# Altium integrated library Silicon Labs Energy Micro EFM32.IntLib: 240 symbols (part 13 of 34)
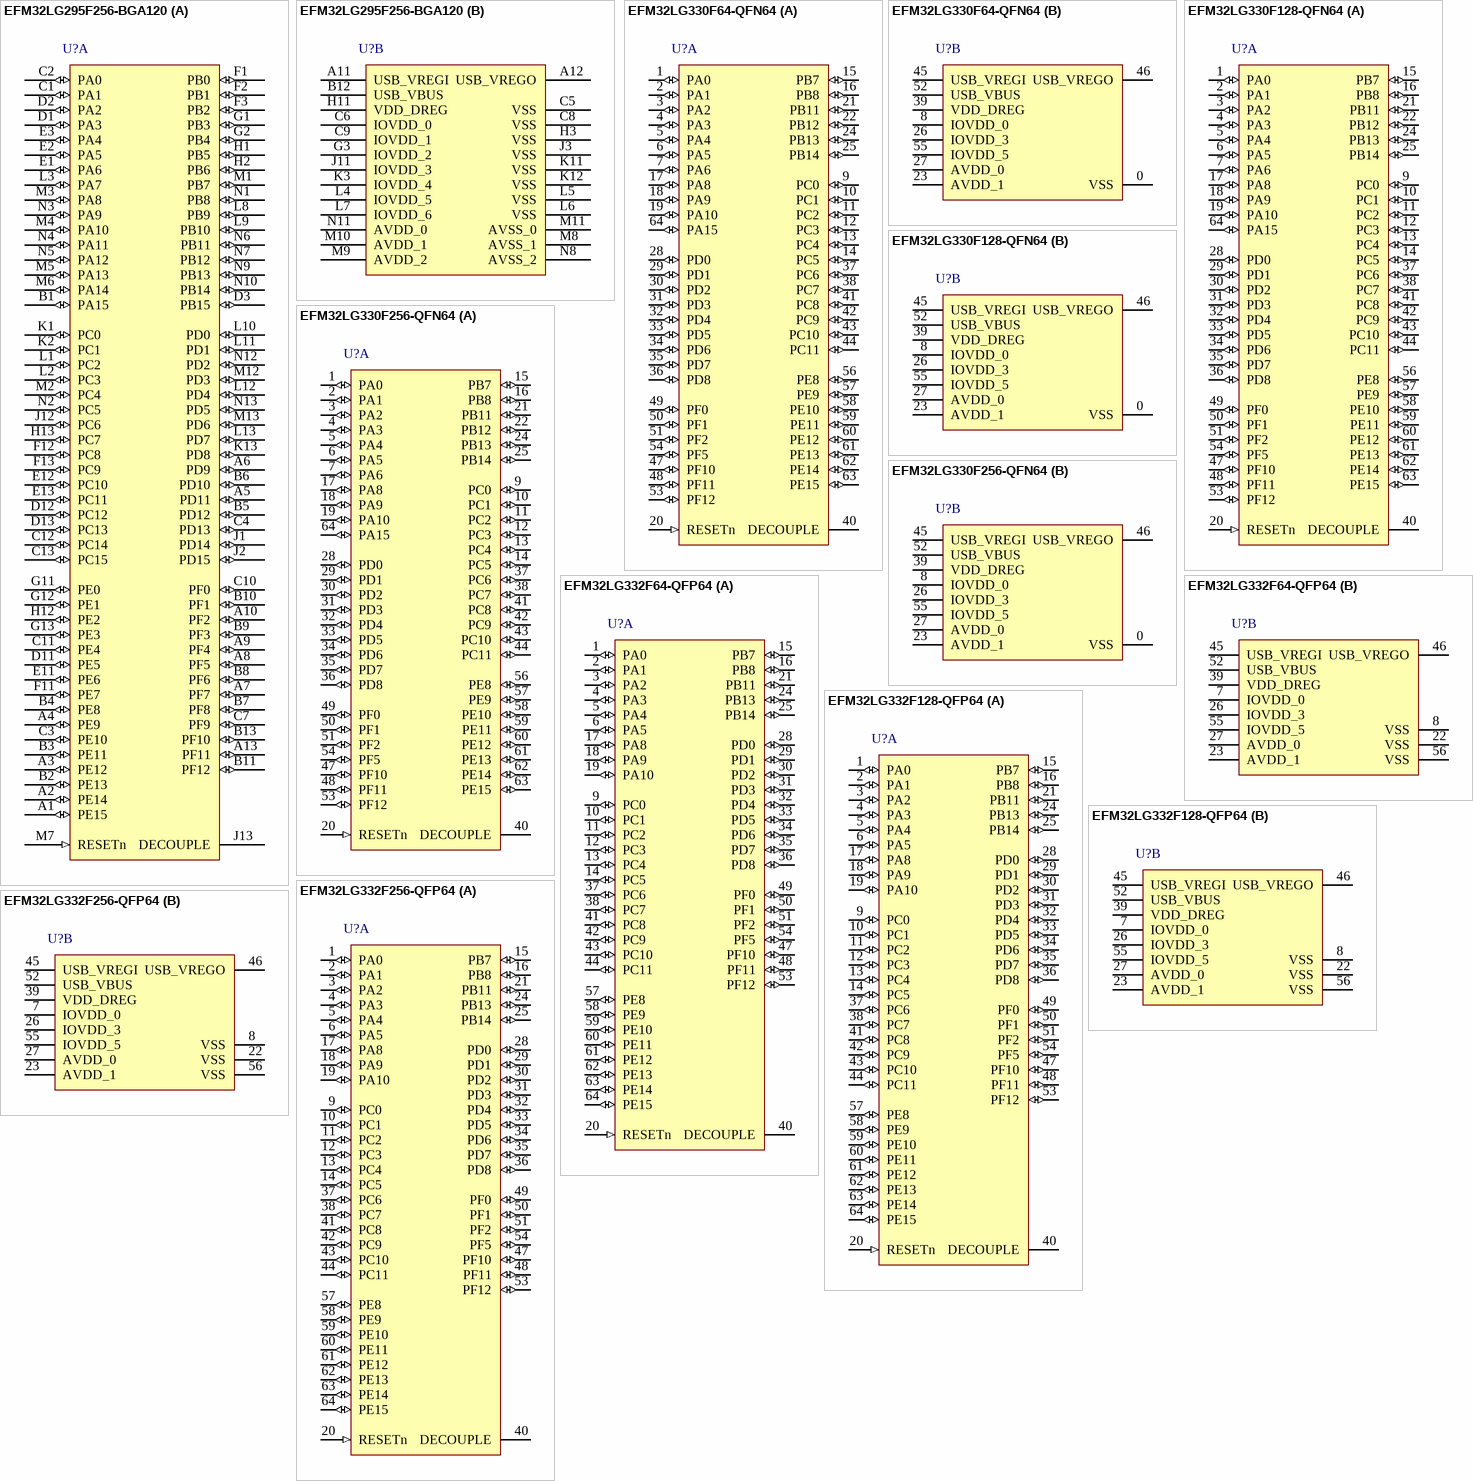
[diagram p50: symbols EFM32LG295F256-BGA120 to EFM32LG332F256-QFP64]

## EFM32LG330F256-QFN64
designator U?
EFM32 Leopard Gecko, M3 ARM Cortex CPU, 256 KB Flash, 32 KB RAM, 1.85 - 3.8 V Supply, 48 MHz Max Speed, -40 to 85 degC, 64-Pin QFN, RoHS Compliant; Generic Part Number: EFM32LG330; PartNumber: EFM32LG330F256-QFN64; Flash (KB): 256; GPIO: 53; LESENSE: Y; Max Speed (MHz): 48; OPAMPS: 3; RAM (KB): 32; DatasheetVersion: Rev 1.00; PackageVersion: Rev. 98SPP64048A_XO1_08MAR2011; PackageReference: QFN64; PackageDescription: 64-Pin Quad Flat No-Lead, Body 9 x 9 mm, Pitch 0.5 mm; Supplier 1: Digi-Key; Supplier Part Number 1: 914-1055-2-ND; Supplier 2: Digi-Key; Supplier Part Number 2: 914-1055-1-ND; Supplier 3: Digi-Key; Supplier Part Number 3: 914-1055-6-ND; Supplier 4: Mouser; Supplier Part Number 4: 904-EFM32LG330F256; ARM Cortex CPU: M3; Subcategory: EFM32 Leopard Gecko; Supply Voltage (V): 1.85 - 3.8; USB: Y; Mounting Technology: Surface Mount; ComponentLink1Description: Manufacturer URL; ComponentLink1URL: http://www.energymicro.com/; ComponentLink2Description: Datasheet; ComponentLink2URL: http://cdn.energymicro.com/dl/devices/pdf/d0038_efm32gg330_datasheet.pdf; ComponentLink3Description: Package Specification; ComponentLink3URL: http://cdn.energymicro.com/dl/devices/pdf/d0005_efm32g230_datasheet.pdf
footprint ENMR-QFN64_N (QFN, 64-Leads, Body 9x9mm, Pitch 0.5mm, IPC Medium Density)
footprint ENMR-QFN64_L (QFN, 64-Leads, Body 9x9mm, Pitch 0.5mm, IPC High Density)
footprint ENMR-QFN64_M (QFN, 64-Leads, Body 9x9mm, Pitch 0.5mm, IPC Low Density)
part A pins: 1 PA0 (io) "TIM0_CC0#0/1/4, LEU0_RX#4, I2C0_SDA#0, PRS_CH0#0, GPIO_EM4WU0", 2 PA1 (io) "TIM0_CC1#0/1, I2C0_SCL#0, CMU_CLK1#0, PRS_CH1#0", 3 PA2 (io) "TIM0_CC2#0/1, CMU_CLK0#0, ETM_TD0#3", 4 PA3 (io) "TIM0_CDTI0#0, LES_ALTEX2#0, ETM_TD1#3", 5 PA4 (io) "TIM0_CDTI1#0, LES_ALTEX3#0, ETM_TD2#3", 6 PA5 (io) "TIM0_CDTI2#0, LEU1_TX#1, LES_ALTEX4#0, ETM_TD3#3", 7 PA6 (io) "LEU1_RX#1, ETM_TCLK#3, GPIO_EM4WU1", 9 PC0 (io) "DAC0_OUT0ALT#0/OPAMP_OUT0ALT, ACMP0_CH0, TIM0_CC1#4, PCNT0_S0IN#2, US0_TX#5, US1_TX#0, I2C0_SDA#4, LES_CH0#0, PRS_CH2#0", 10 PC1 (io) "DAC0_OUT0ALT#1/OPAMP_OUT0ALT, ACMP0_CH1, TIM0_CC2#4, PCNT0_S1IN#2, US0_RX#5, US1_RX#0, I2C0_SCL#4, LES_CH1#0, PRS_CH3#0", 11 PC2 (io) "DAC0_OUT0ALT#2/OPAMP_OUT0ALT, ACMP0_CH2, TIM0_CDTI0#4, US2_TX#0, LES_CH2#0", 12 PC3 (io) "DAC0_OUT0ALT#3/OPAMP_OUT0ALT, ACMP0_CH3, TIM0_CDTI1#4, US2_RX#0, LES_CH3#0", 13 PC4 (io) "DAC0_P0#0/OPAMP_P0, ACMP0_CH4, TIM0_CDTI2#4, LETIM0_OUT0#3, PCNT1_S0IN#0, US2_CLK#0, I2C1_SDA#0, LES_CH4#0", 14 PC5 (io) "DAC0_N0#0/OPAMP_N0, ACMP0_CH5, LETIM0_OUT1#3, PCNT1_S1IN#0, US2_CS#0, I2C1_SCL#0, LES_CH5#0", 15 PB7 (io) "LFXTAL_P, TIM1_CC0#3, US0_TX#4, US1_CLK#0", 16 PB8 (io) "LFXTAL_N, TIM1_CC1#3, US0_RX#4, US1_CS#0", 17 PA8 (io) "TIM2_CC0#0", 18 PA9 (io) "TIM2_CC1#0", 19 PA10 (io) "TIM2_CC2#0", 20 RESETn (in) "Reset input. Active low, with internal pull-up.", 21 PB11 (io) "DAC0_OUT0#0/OPAMP_OUT0, TIM1_CC2#3, LETIM0_OUT0#1, I2C1_SDA#1", 22 PB12 (io) "DAC0_OUT1#0/OPAMP_OUT1, LETIM0_OUT1#1, I2C1_SCL#1", 24 PB13 (io) "HFXTAL_P, US0_CLK#4/5, LEU0_TX#1", 25 PB14 (io) "HFXTAL_N, US0_CS#4/5, LEU0_RX#1", 28 PD0 (io) "ADC0_CH0, DAC0_OUT0ALT#4/OPAMP_OUT0ALT, DAC0_OUT2#1/OPAMP_OUT2, PCNT2_S0IN#0, US1_TX#1", 29 PD1 (io) "ADC0_CH1, DAC0_OUT1ALT#4/OPAMP_OUT1ALT, TIM0_CC0#3, PCNT2_S1IN#0, US1_RX#1, DBG_SWO#2", 30 PD2 (io) "ADC0_CH2, TIM0_CC1#3, US1_CLK#1, USB_DMPU#0, DBG_SWO#3", 31 PD3 (io) "ADC0_CH3, DAC0_N2#0/OPAMP_N2, TIM0_CC2#3, US1_CS#1, ETM_TD1#0/2", 32 PD4 (io) "ADC0_CH4, DAC0_P2#0/OPAMP_P2, LEU0_TX#0, ETM_TD2#0/2", 33 PD5 (io) "ADC0_CH5, DAC0_OUT2#0/OPAMP_OUT2, LEU0_RX#0, ETM_TD3#0/2", 34 PD6 (io) "ADC0_CH6, DAC0_P1#0/OPAMP_P1, TIM1_CC0#4, LETIM0_OUT0#0, PCNT0_S0IN#3, US1_RX#2, I2C0_SDA#1, LES_ALTEX0#0, ACMP0_O#2, ETM_TD0#0", 35 PD7 (io) "ADC0_CH7, DAC0_N1#0/OPAMP_N1, TIM1_CC1#4, LETIM0_OUT1#0, PCNT0_S1IN#3, US1_TX#2, I2C0_SCL#1, CMU_CLK0#2, LES_ALTEX1#0, ACMP1_O#2, ETM_TCLK#0", 36 PD8 (io) "BU_VIN, CMU_CLK1#1", 37 PC6 (io) "ACMP0_CH6, LEU1_TX#0, I2C0_SDA#2, LES_CH6#0, ETM_TCLK#2", 38 PC7 (io) "ACMP0_CH7, LEU1_RX#0, I2C0_SCL#2, LES_CH7#0, ETM_TD0#2", 40 DECOUPLE "Decouple output for on-chip voltage regulator. An external capacitance of size CDECOUPLE is required at this pin.", 41 PC8 (io) "ACMP1_CH0, TIM2_CC0#2, US0_CS#2, LES_CH8#0", 42 PC9 (io) "ACMP1_CH1, TIM2_CC1#2, US0_CLK#2, LES_CH9#0, GPIO_EM4WU2", 43 PC10 (io) "ACMP1_CH2, TIM2_CC2#2, US0_RX#2, LES_CH10#0", 44 PC11 (io) "ACMP1_CH3, US0_TX#2, LES_CH11#0", 47 PF10 (io) "USB_DM#0", 48 PF11 (io) "USB_DP#0", 49 PF0 (io) "TIM0_CC0#5, LETIM0_OUT0#2, US1_CLK#2, LEU0_TX#3, I2C0_SDA#5, DBG_SWCLK#0/1/2/3", 50 PF1 (io) "TIM0_CC1#5, LETIM0_OUT1#2, US1_CS#2, LEU0_RX#3, I2C0_SCL#5, DBG_SWDIO#0/1/2/3, GPIO_EM4WU3", 51 PF2 (io) "TIM0_CC2#5, LEU0_TX#4, ACMP1_O#0, DBG_SWO#0, GPIO_EM4WU4", 53 PF12 (io) "USB_ID#0", 54 PF5 (io) "TIM0_CDTI2#2/5, USB_VBUSEN#0, PRS_CH2#1", 56 PE8 (io) "PCNT2_S0IN#1, PRS_CH3#1", 57 PE9 (io) "PCNT2_S1IN#1", 58 PE10 (io) "TIM1_CC0#1, US0_TX#0, BOOTLOADER_TX", 59 PE11 (io) "TIM1_CC1#1, US0_RX#0, LES_ALTEX5#0, BOOTLOADER_RX", 60 PE12 (io) "TIM1_CC2#1, US0_RX#3, US0_CLK#0, I2C0_SDA#6, CMU_CLK1#2, LES_ALTEX6#0", 61 PE13 (io) "US0_TX#3, US0_CS#0, I2C0_SCL#6, LES_ALTEX7#0, ACMP0_O#0, GPIO_EM4WU5", 62 PE14 (io) "TIM3_CC0#0, LEU0_TX#2", 63 PE15 (io) "TIM3_CC1#0, LEU0_RX#2", 64 PA15 (io) "TIM3_CC2#0"
part B pins: 0 VSS (power) "Ground", 8 IOVDD_0 (power) "Digital IO power supply 0.", 23 AVDD_1 (power) "Analog power supply 1 .", 26 IOVDD_3 (power) "Digital IO power supply 3.", 27 AVDD_0 (power) "Analog power supply 0.", 39 VDD_DREG (power) "Power supply for on-chip voltage regulator.", 45 USB_VREGI (power) "USB Input to internal 3.3 V regulator.", 46 USB_VREGO "USB Decoupling for internal 3.3 V USB regulator and regulator output.", 52 USB_VBUS (power) "USB 5.0 V VBUS input.", 55 IOVDD_5 (power) "Digital IO power supply 5."

## EFM32LG332F64-QFP64
designator U?
EFM32 Leopard Gecko, M3 ARM Cortex CPU, 64 KB Flash, 32 KB RAM, 1.85 - 3.8 V Supply, 48 MHz Max Speed, -40 to 85 degC, 64-Pin TQFP, RoHS Compliant; Generic Part Number: EFM32LG332; PartNumber: EFM32LG332F64-QFP64; ADC: Y; Flash (KB): 64; GPIO: 50; I2C: 2; Max Speed (MHz): 48; OPAMPS: 3; RAM (KB): 32; DatasheetVersion: Rev 1.00; PackageVersion: Rev. 98SPP64023A_XO1_17MAR2011; PackageReference: TQFP64; PackageDescription: 64-Pin Quad Flat Package, Body 10 x 10 mm, Pitch 0.5 mm; Supplier 1: Digi-Key; Supplier Part Number 1: EFM32LG332F64-ND; Supplier 2: Mouser; Supplier Part Number 2: 904-EFM32LG332F64; AES: Y; ARM Cortex CPU: M3; LESENSE: Y; Subcategory: EFM32 Leopard Gecko; Supply Voltage (V): 1.85 - 3.8; USART/SPI (I2S): 3; USB: Y; Mounting Technology: Surface Mount; ComponentLink1Description: Manufacturer URL; ComponentLink1URL: http://www.energymicro.com/; ComponentLink2Description: Datasheet; ComponentLink2URL: http://cdn.energymicro.com/dl/devices/pdf/d0111_efm32lg332_datasheet.pdf; ComponentLink3Description: Package Specification; ComponentLink3URL: http://cdn.energymicro.com/dl/devices/pdf/d0070_efm32g842_datasheet.pdf
footprint ENMR-TQFP64_N (QFP, 64-Leads, Body 10x10mm, Pitch 0.5mm, IPC Medium Density)
footprint ENMR-TQFP64_L (QFP, 64-Leads, Body 10x10mm, Pitch 0.5mm, IPC High Density)
footprint ENMR-TQFP64_M (QFP, 64-Leads, Body 10x10mm, Pitch 0.5mm, IPC Low Density)
part A pins: 1 PA0 (io) "TIM0_CC0 #0/1/4, LEU0_RX #4, I2C0_SDA #0, PRS_CH0 #0, GPIO_EM4WU0", 2 PA1 (io) "TIM0_CC1 #0/1, I2C0_SCL #0, CMU_CLK1 #0, PRS_CH1 #0", 3 PA2 (io) "TIM0_CC2 #0/1, CMU_CLK0 #0, ETM_TD0 #3", 4 PA3 (io) "TIM0_CDTI0 #0, LES_ALTEX2 #0, ETM_TD1 #3", 5 PA4 (io) "TIM0_CDTI1 #0, LES_ALTEX3 #0, ETM_TD2 #3", 6 PA5 (io) "TIM0_CDTI2 #0, LEU1_TX #1, LES_ALTEX4 #0, ETM_TD3 #3", 9 PC0 (io) "DAC0_OUT0ALT #0/OPAMP_OUT0ALT, ACMP0_CH0, TIM0_CC1 #4, PCNT0_S0IN #2, US0_TX #5, US1_TX #0, I2C0_SDA #4, LES_CH0 #0, PRS_CH2 #0", 10 PC1 (io) "DAC0_OUT0ALT #1/OPAMP_OUT0ALT, ACMP0_CH1, TIM0_CC2 #4, PCNT0_S1IN #2, US0_RX #5, US1_RX #0, I2C0_SCL #4, LES_CH1 #0, PRS_CH3 #0", 11 PC2 (io) "DAC0_OUT0ALT #2/OPAMP_OUT0ALT, ACMP0_CH2, TIM0_CDTI0 #4, US2_TX #0, LES_CH2 #0", 12 PC3 (io) "DAC0_OUT0ALT #3/OPAMP_OUT0ALT, ACMP0_CH3, TIM0_CDTI1 #4, US2_RX #0, LES_CH3 #0", 13 PC4 (io) "DAC0_P0 #0/OPAMP_P0, ACMP0_CH4, TIM0_CDTI2 #4, LETIM0_OUT0 #3, PCNT1_S0IN #0, US2_CLK #0, I2C1_SDA #0, LES_CH4 #0", 14 PC5 (io) "DAC0_N0 #0/OPAMP_N0, ACMP0_CH5, LETIM0_OUT1 #3, PCNT1_S1IN #0, US2_CS #0, I2C1_SCL #0, LES_CH5 #0", 15 PB7 (io) "LFXTAL_P, TIM1_CC0 #3, US0_TX #4, US1_CLK #0", 16 PB8 (io) "LFXTAL_N, TIM1_CC1 #3, US0_RX #4, US1_CS #0", 17 PA8 (io) "TIM2_CC0 #0", 18 PA9 (io) "TIM2_CC1 #0", 19 PA10 (io) "TIM2_CC2 #0", 20 RESETn (in) "Reset input. Active low, with internal pull-up.", 21 PB11 (io) "DAC0_OUT0 #0/OPAMP_OUT0, TIM1_CC2 #3, LETIM0_OUT0 #1, I2C1_SDA #1", 24 PB13 (io) "HFXTAL_P, US0_CLK #4/5, LEU0_TX #1", 25 PB14 (io) "HFXTAL_N, US0_CS #4/5, LEU0_RX #1", 28 PD0 (io) "ADC0_CH0, DAC0_OUT0ALT #4/OPAMP_OUT0ALT, DAC0_OUT2 #1/OPAMP_OUT2, PCNT2_S0IN #0, US1_TX #1", 29 PD1 (io) "ADC0_CH1, DAC0_OUT1ALT #4/OPAMP_OUT1ALT, TIM0_CC0 #3, PCNT2_S1IN #0, US1_RX #1, DBG_SWO #2", 30 PD2 (io) "ADC0_CH2, TIM0_CC1#3, US1_CLK#1, USB_DMPU#0, DBG_SWO#3", 31 PD3 (io) "ADC0_CH3, DAC0_N2 #0/OPAMP_N2, TIM0_CC2 #3, US1_CS #1, ETM_TD1 #0/2", 32 PD4 (io) "ADC0_CH4, DAC0_P2 #0/OPAMP_P2, LEU0_TX #0, ETM_TD2 #0/2", 33 PD5 (io) "ADC0_CH5, DAC0_OUT2 #0/OPAMP_OUT2, LEU0_RX #0, ETM_TD3 #0/2", 34 PD6 (io) "ADC0_CH6, DAC0_P1 #0/OPAMP_P1, TIM1_CC0 #4, LETIM0_OUT0 #0, PCNT0_S0IN #3, US1_RX #2, I2C0_SDA #1, LES_ALTEX0 #0, ACMP0_O #2, ETM_TD0 #0", 35 PD7 (io) "ADC0_CH7, DAC0_N1 #0/OPAMP_N1, TIM1_CC1 #4, LETIM0_OUT1 #0, PCNT0_S1IN #3, US1_TX #2, I2C0_SCL #1, CMU_CLK0 #2, LES_ALTEX1 #0, ACMP1_O #2, ETM_TCLK #0", 36 PD8 (io) "BU_VIN, CMU_CLK1 #1", 37 PC6 (io) "ACMP0_CH6, LEU1_TX #0, I2C0_SDA #2, LES_CH6 #0, ETM_TCLK #2", 38 PC7 (io) "ACMP0_CH7, LEU1_RX #0, I2C0_SCL #2, LES_CH7 #0, ETM_TD0 #2", 40 DECOUPLE "Decouple output for on-chip voltage regulator. An external capacitance of size CDECOUPLE is required at this pin.", 41 PC8 (io) "ACMP1_CH0, TIM2_CC0 #2, US0_CS #2, LES_CH8 #0", 42 PC9 (io) "ACMP1_CH1, TIM2_CC1 #2, US0_CLK #2, LES_CH9 #0, GPIO_EM4WU2", 43 PC10 (io) "ACMP1_CH2, TIM2_CC2 #2, US0_RX #2, LES_CH10 #0", 44 PC11 (io) "ACMP1_CH3, US0_TX #2, LES_CH11 #0", 47 PF10 (io) "USB_DM #0", 48 PF11 (io) "USB_DP #0", 49 PF0 (io) "TIM0_CC0 #5, LETIM0_OUT0 #2, US1_CLK #2, LEU0_TX #3, I2C0_SDA #5, DBG_SWCLK #0/1/2/3", 50 PF1 (io) "TIM0_CC1 #5, LETIM0_OUT1 #2, US1_CS #2, LEU0_RX #3, I2C0_SCL #5, DBG_SWDIO #0/1/2/3, GPIO_EM4WU3", 51 PF2 (io) "TIM0_CC2 #5, LEU0_TX #4, ACMP1_O #0, DBG_SWO #0, GPIO_EM4WU4", 53 PF12 (io) "USB_ID #0", 54 PF5 (io) "TIM0_CDTI2 #2/5, USB_VBUSEN #0, PRS_CH2 #1", 57 PE8 (io) "PCNT2_S0IN #1, PRS_CH3 #1", 58 PE9 (io) "PCNT2_S1IN #1", 59 PE10 (io) "TIM1_CC0 #1, US0_TX #0, BOOTLOADER_TX", 60 PE11 (io) "TIM1_CC1 #1, US0_RX #0, LES_ALTEX5 #0, BOOTLOADER_RX", 61 PE12 (io) "TIM1_CC2 #1, US0_RX #3, US0_CLK #0, I2C0_SDA #6, CMU_CLK1 #2, LES_ALTEX6 #0", 62 PE13 (io) "US0_TX #3, US0_CS #0, I2C0_SCL #6, LES_ALTEX7 #0, ACMP0_O #0, GPIO_EM4WU5", 63 PE14 (io) "TIM3_CC0 #0, LEU0_TX #2", 64 PE15 (io) "TIM3_CC1 #0, LEU0_RX #2"
part B pins: 7 IOVDD_0 (power) "Digital IO power supply 0.", 8 VSS (power) "Ground", 22 VSS (power) "Ground", 23 AVDD_1 (power) "Analog power supply 1.", 26 IOVDD_3 (power) "Digital IO power supply 3.", 27 AVDD_0 (power) "Analog power supply 0.", 39 VDD_DREG (power) "Power supply for on-chip voltage regulator.", 45 USB_VREGI (power) "USB Input to internal 3.3 V regulator.", 46 USB_VREGO "USB Decoupling for internal 3.3 V USB regulator and regulator output.", 52 USB_VBUS (power) "USB 5.0 V VBUS input.", 55 IOVDD_5 (power) "Digital IO power supply 5.", 56 VSS (power) "Ground"

## EFM32LG332F128-QFP64
designator U?
EFM32 Leopard Gecko, M3 ARM Cortex CPU, 128 KB Flash, 32 KB RAM, 1.85 - 3.8 V Supply, 48 MHz Max Speed, -40 to 85 degC, 64-Pin TQFP, RoHS Compliant; Generic Part Number: EFM32LG332; PartNumber: EFM32LG332F128-QFP64; Flash (KB): 128; GPIO: 50; LESENSE: Y; Max Speed (MHz): 48; OPAMPS: 3; RAM (KB): 32; DatasheetVersion: Rev 1.00; PackageVersion: Rev. 98SPP64023A_XO1_17MAR2011; PackageReference: TQFP64; PackageDescription: 64-Pin Quad Flat Package, Body 10 x 10 mm, Pitch 0.5 mm; Supplier 1: Digi-Key; Supplier Part Number 1: 914-1095-2-ND; Supplier 2: Digi-Key; Supplier Part Number 2: 914-1095-1-ND; Supplier 3: Digi-Key; Supplier Part Number 3: 914-1095-6-ND; Supplier 4: Mouser; Supplier Part Number 4: 904-EFM32LG332F128; ARM Cortex CPU: M3; Subcategory: EFM32 Leopard Gecko; Supply Voltage (V): 1.85 - 3.8; USB: Y; Mounting Technology: Surface Mount; ComponentLink1Description: Manufacturer URL; ComponentLink1URL: http://www.energymicro.com/; ComponentLink2Description: Datasheet; ComponentLink2URL: http://cdn.energymicro.com/dl/devices/pdf/d0111_efm32lg332_datasheet.pdf; ComponentLink3Description: Package Specification; ComponentLink3URL: http://cdn.energymicro.com/dl/devices/pdf/d0070_efm32g842_datasheet.pdf
footprint ENMR-TQFP64_N (QFP, 64-Leads, Body 10x10mm, Pitch 0.5mm, IPC Medium Density)
footprint ENMR-TQFP64_L (QFP, 64-Leads, Body 10x10mm, Pitch 0.5mm, IPC High Density)
footprint ENMR-TQFP64_M (QFP, 64-Leads, Body 10x10mm, Pitch 0.5mm, IPC Low Density)
part A pins: 1 PA0 (io) "TIM0_CC0 #0/1/4, LEU0_RX #4, I2C0_SDA #0, PRS_CH0 #0, GPIO_EM4WU0", 2 PA1 (io) "TIM0_CC1 #0/1, I2C0_SCL #0, CMU_CLK1 #0, PRS_CH1 #0", 3 PA2 (io) "TIM0_CC2 #0/1, CMU_CLK0 #0, ETM_TD0 #3", 4 PA3 (io) "TIM0_CDTI0 #0, LES_ALTEX2 #0, ETM_TD1 #3", 5 PA4 (io) "TIM0_CDTI1 #0, LES_ALTEX3 #0, ETM_TD2 #3", 6 PA5 (io) "TIM0_CDTI2 #0, LEU1_TX #1, LES_ALTEX4 #0, ETM_TD3 #3", 9 PC0 (io) "DAC0_OUT0ALT #0/OPAMP_OUT0ALT, ACMP0_CH0, TIM0_CC1 #4, PCNT0_S0IN #2, US0_TX #5, US1_TX #0, I2C0_SDA #4, LES_CH0 #0, PRS_CH2 #0", 10 PC1 (io) "DAC0_OUT0ALT #1/OPAMP_OUT0ALT, ACMP0_CH1, TIM0_CC2 #4, PCNT0_S1IN #2, US0_RX #5, US1_RX #0, I2C0_SCL #4, LES_CH1 #0, PRS_CH3 #0", 11 PC2 (io) "DAC0_OUT0ALT #2/OPAMP_OUT0ALT, ACMP0_CH2, TIM0_CDTI0 #4, US2_TX #0, LES_CH2 #0", 12 PC3 (io) "DAC0_OUT0ALT #3/OPAMP_OUT0ALT, ACMP0_CH3, TIM0_CDTI1 #4, US2_RX #0, LES_CH3 #0", 13 PC4 (io) "DAC0_P0 #0/OPAMP_P0, ACMP0_CH4, TIM0_CDTI2 #4, LETIM0_OUT0 #3, PCNT1_S0IN #0, US2_CLK #0, I2C1_SDA #0, LES_CH4 #0", 14 PC5 (io) "DAC0_N0 #0/OPAMP_N0, ACMP0_CH5, LETIM0_OUT1 #3, PCNT1_S1IN #0, US2_CS #0, I2C1_SCL #0, LES_CH5 #0", 15 PB7 (io) "LFXTAL_P, TIM1_CC0 #3, US0_TX #4, US1_CLK #0", 16 PB8 (io) "LFXTAL_N, TIM1_CC1 #3, US0_RX #4, US1_CS #0", 17 PA8 (io) "TIM2_CC0 #0", 18 PA9 (io) "TIM2_CC1 #0", 19 PA10 (io) "TIM2_CC2 #0", 20 RESETn (in) "Reset input. Active low, with internal pull-up.", 21 PB11 (io) "DAC0_OUT0 #0/OPAMP_OUT0, TIM1_CC2 #3, LETIM0_OUT0 #1, I2C1_SDA #1", 24 PB13 (io) "HFXTAL_P, US0_CLK #4/5, LEU0_TX #1", 25 PB14 (io) "HFXTAL_N, US0_CS #4/5, LEU0_RX #1", 28 PD0 (io) "ADC0_CH0, DAC0_OUT0ALT #4/OPAMP_OUT0ALT, DAC0_OUT2 #1/OPAMP_OUT2, PCNT2_S0IN #0, US1_TX #1", 29 PD1 (io) "ADC0_CH1, DAC0_OUT1ALT #4/OPAMP_OUT1ALT, TIM0_CC0 #3, PCNT2_S1IN #0, US1_RX #1, DBG_SWO #2", 30 PD2 (io) "ADC0_CH2, TIM0_CC1#3, US1_CLK#1, USB_DMPU#0, DBG_SWO#3", 31 PD3 (io) "ADC0_CH3, DAC0_N2 #0/OPAMP_N2, TIM0_CC2 #3, US1_CS #1, ETM_TD1 #0/2", 32 PD4 (io) "ADC0_CH4, DAC0_P2 #0/OPAMP_P2, LEU0_TX #0, ETM_TD2 #0/2", 33 PD5 (io) "ADC0_CH5, DAC0_OUT2 #0/OPAMP_OUT2, LEU0_RX #0, ETM_TD3 #0/2", 34 PD6 (io) "ADC0_CH6, DAC0_P1 #0/OPAMP_P1, TIM1_CC0 #4, LETIM0_OUT0 #0, PCNT0_S0IN #3, US1_RX #2, I2C0_SDA #1, LES_ALTEX0 #0, ACMP0_O #2, ETM_TD0 #0", 35 PD7 (io) "ADC0_CH7, DAC0_N1 #0/OPAMP_N1, TIM1_CC1 #4, LETIM0_OUT1 #0, PCNT0_S1IN #3, US1_TX #2, I2C0_SCL #1, CMU_CLK0 #2, LES_ALTEX1 #0, ACMP1_O #2, ETM_TCLK #0", 36 PD8 (io) "BU_VIN, CMU_CLK1 #1", 37 PC6 (io) "ACMP0_CH6, LEU1_TX #0, I2C0_SDA #2, LES_CH6 #0, ETM_TCLK #2", 38 PC7 (io) "ACMP0_CH7, LEU1_RX #0, I2C0_SCL #2, LES_CH7 #0, ETM_TD0 #2", 40 DECOUPLE "Decouple output for on-chip voltage regulator. An external capacitance of size CDECOUPLE is required at this pin.", 41 PC8 (io) "ACMP1_CH0, TIM2_CC0 #2, US0_CS #2, LES_CH8 #0", 42 PC9 (io) "ACMP1_CH1, TIM2_CC1 #2, US0_CLK #2, LES_CH9 #0, GPIO_EM4WU2", 43 PC10 (io) "ACMP1_CH2, TIM2_CC2 #2, US0_RX #2, LES_CH10 #0", 44 PC11 (io) "ACMP1_CH3, US0_TX #2, LES_CH11 #0", 47 PF10 (io) "USB_DM #0", 48 PF11 (io) "USB_DP #0", 49 PF0 (io) "TIM0_CC0 #5, LETIM0_OUT0 #2, US1_CLK #2, LEU0_TX #3, I2C0_SDA #5, DBG_SWCLK #0/1/2/3", 50 PF1 (io) "TIM0_CC1 #5, LETIM0_OUT1 #2, US1_CS #2, LEU0_RX #3, I2C0_SCL #5, DBG_SWDIO #0/1/2/3, GPIO_EM4WU3", 51 PF2 (io) "TIM0_CC2 #5, LEU0_TX #4, ACMP1_O #0, DBG_SWO #0, GPIO_EM4WU4", 53 PF12 (io) "USB_ID #0", 54 PF5 (io) "TIM0_CDTI2 #2/5, USB_VBUSEN #0, PRS_CH2 #1", 57 PE8 (io) "PCNT2_S0IN #1, PRS_CH3 #1", 58 PE9 (io) "PCNT2_S1IN #1", 59 PE10 (io) "TIM1_CC0 #1, US0_TX #0, BOOTLOADER_TX", 60 PE11 (io) "TIM1_CC1 #1, US0_RX #0, LES_ALTEX5 #0, BOOTLOADER_RX", 61 PE12 (io) "TIM1_CC2 #1, US0_RX #3, US0_CLK #0, I2C0_SDA #6, CMU_CLK1 #2, LES_ALTEX6 #0", 62 PE13 (io) "US0_TX #3, US0_CS #0, I2C0_SCL #6, LES_ALTEX7 #0, ACMP0_O #0, GPIO_EM4WU5", 63 PE14 (io) "TIM3_CC0 #0, LEU0_TX #2", 64 PE15 (io) "TIM3_CC1 #0, LEU0_RX #2"
part B pins: 7 IOVDD_0 (power) "Digital IO power supply 0.", 8 VSS (power) "Ground", 22 VSS (power) "Ground", 23 AVDD_1 (power) "Analog power supply 1.", 26 IOVDD_3 (power) "Digital IO power supply 3.", 27 AVDD_0 (power) "Analog power supply 0.", 39 VDD_DREG (power) "Power supply for on-chip voltage regulator.", 45 USB_VREGI (power) "USB Input to internal 3.3 V regulator.", 46 USB_VREGO "USB Decoupling for internal 3.3 V USB regulator and regulator output.", 52 USB_VBUS (power) "USB 5.0 V VBUS input.", 55 IOVDD_5 (power) "Digital IO power supply 5.", 56 VSS (power) "Ground"

## EFM32LG332F256-QFP64
designator U?
EFM32 Leopard Gecko, M3 ARM Cortex CPU, 256 KB Flash, 32 KB RAM, 1.85 - 3.8 V Supply, 48 MHz Max Speed, -40 to 85 degC, 64-Pin TQFP, RoHS Compliant; Generic Part Number: EFM32LG332; PartNumber: EFM32LG332F256-QFP64; ADC: Y; Flash (KB): 256; GPIO: 50; I2C: 2; Max Speed (MHz): 48; OPAMPS: 3; RAM (KB): 32; DatasheetVersion: Rev 1.00; PackageVersion: Rev. 98SPP64023A_XO1_17MAR2011; PackageReference: TQFP64; PackageDescription: 64-Pin Quad Flat Package, Body 10 x 10 mm, Pitch 0.5 mm; Supplier 1: Digi-Key; Supplier Part Number 1: 914-1073-2-ND; Supplier 2: Digi-Key; Supplier Part Number 2: 914-1073-1-ND; Supplier 3: Digi-Key; Supplier Part Number 3: 914-1073-6-ND; Supplier 4: Mouser; Supplier Part Number 4: 904-EFM32LG332F256; AES: Y; ARM Cortex CPU: M3; LESENSE: Y; Subcategory: EFM32 Leopard Gecko; Supply Voltage (V): 1.85 - 3.8; USART/SPI (I2S): 3; USB: Y; Mounting Technology: Surface Mount; ComponentLink1Description: Manufacturer URL; ComponentLink1URL: http://www.energymicro.com/; ComponentLink2Description: Datasheet; ComponentLink2URL: http://cdn.energymicro.com/dl/devices/pdf/d0111_efm32lg332_datasheet.pdf; ComponentLink3Description: Package Specification; ComponentLink3URL: http://cdn.energymicro.com/dl/devices/pdf/d0070_efm32g842_datasheet.pdf
footprint ENMR-TQFP64_N (QFP, 64-Leads, Body 10x10mm, Pitch 0.5mm, IPC Medium Density)
footprint ENMR-TQFP64_L (QFP, 64-Leads, Body 10x10mm, Pitch 0.5mm, IPC High Density)
footprint ENMR-TQFP64_M (QFP, 64-Leads, Body 10x10mm, Pitch 0.5mm, IPC Low Density)
part A pins: 1 PA0 (io) "TIM0_CC0 #0/1/4, LEU0_RX #4, I2C0_SDA #0, PRS_CH0 #0, GPIO_EM4WU0", 2 PA1 (io) "TIM0_CC1 #0/1, I2C0_SCL #0, CMU_CLK1 #0, PRS_CH1 #0", 3 PA2 (io) "TIM0_CC2 #0/1, CMU_CLK0 #0, ETM_TD0 #3", 4 PA3 (io) "TIM0_CDTI0 #0, LES_ALTEX2 #0, ETM_TD1 #3", 5 PA4 (io) "TIM0_CDTI1 #0, LES_ALTEX3 #0, ETM_TD2 #3", 6 PA5 (io) "TIM0_CDTI2 #0, LEU1_TX #1, LES_ALTEX4 #0, ETM_TD3 #3", 9 PC0 (io) "DAC0_OUT0ALT #0/OPAMP_OUT0ALT, ACMP0_CH0, TIM0_CC1 #4, PCNT0_S0IN #2, US0_TX #5, US1_TX #0, I2C0_SDA #4, LES_CH0 #0, PRS_CH2 #0", 10 PC1 (io) "DAC0_OUT0ALT #1/OPAMP_OUT0ALT, ACMP0_CH1, TIM0_CC2 #4, PCNT0_S1IN #2, US0_RX #5, US1_RX #0, I2C0_SCL #4, LES_CH1 #0, PRS_CH3 #0", 11 PC2 (io) "DAC0_OUT0ALT #2/OPAMP_OUT0ALT, ACMP0_CH2, TIM0_CDTI0 #4, US2_TX #0, LES_CH2 #0", 12 PC3 (io) "DAC0_OUT0ALT #3/OPAMP_OUT0ALT, ACMP0_CH3, TIM0_CDTI1 #4, US2_RX #0, LES_CH3 #0", 13 PC4 (io) "DAC0_P0 #0/OPAMP_P0, ACMP0_CH4, TIM0_CDTI2 #4, LETIM0_OUT0 #3, PCNT1_S0IN #0, US2_CLK #0, I2C1_SDA #0, LES_CH4 #0", 14 PC5 (io) "DAC0_N0 #0/OPAMP_N0, ACMP0_CH5, LETIM0_OUT1 #3, PCNT1_S1IN #0, US2_CS #0, I2C1_SCL #0, LES_CH5 #0", 15 PB7 (io) "LFXTAL_P, TIM1_CC0 #3, US0_TX #4, US1_CLK #0", 16 PB8 (io) "LFXTAL_N, TIM1_CC1 #3, US0_RX #4, US1_CS #0", 17 PA8 (io) "TIM2_CC0 #0", 18 PA9 (io) "TIM2_CC1 #0", 19 PA10 (io) "TIM2_CC2 #0", 20 RESETn (in) "Reset input. Active low, with internal pull-up.", 21 PB11 (io) "DAC0_OUT0 #0/OPAMP_OUT0, TIM1_CC2 #3, LETIM0_OUT0 #1, I2C1_SDA #1", 24 PB13 (io) "HFXTAL_P, US0_CLK #4/5, LEU0_TX #1", 25 PB14 (io) "HFXTAL_N, US0_CS #4/5, LEU0_RX #1", 28 PD0 (io) "ADC0_CH0, DAC0_OUT0ALT #4/OPAMP_OUT0ALT, DAC0_OUT2 #1/OPAMP_OUT2, PCNT2_S0IN #0, US1_TX #1", 29 PD1 (io) "ADC0_CH1, DAC0_OUT1ALT #4/OPAMP_OUT1ALT, TIM0_CC0 #3, PCNT2_S1IN #0, US1_RX #1, DBG_SWO #2", 30 PD2 (io) "ADC0_CH2, TIM0_CC1#3, US1_CLK#1, USB_DMPU#0, DBG_SWO#3", 31 PD3 (io) "ADC0_CH3, DAC0_N2 #0/OPAMP_N2, TIM0_CC2 #3, US1_CS #1, ETM_TD1 #0/2", 32 PD4 (io) "ADC0_CH4, DAC0_P2 #0/OPAMP_P2, LEU0_TX #0, ETM_TD2 #0/2", 33 PD5 (io) "ADC0_CH5, DAC0_OUT2 #0/OPAMP_OUT2, LEU0_RX #0, ETM_TD3 #0/2", 34 PD6 (io) "ADC0_CH6, DAC0_P1 #0/OPAMP_P1, TIM1_CC0 #4, LETIM0_OUT0 #0, PCNT0_S0IN #3, US1_RX #2, I2C0_SDA #1, LES_ALTEX0 #0, ACMP0_O #2, ETM_TD0 #0", 35 PD7 (io) "ADC0_CH7, DAC0_N1 #0/OPAMP_N1, TIM1_CC1 #4, LETIM0_OUT1 #0, PCNT0_S1IN #3, US1_TX #2, I2C0_SCL #1, CMU_CLK0 #2, LES_ALTEX1 #0, ACMP1_O #2, ETM_TCLK #0", 36 PD8 (io) "BU_VIN, CMU_CLK1 #1", 37 PC6 (io) "ACMP0_CH6, LEU1_TX #0, I2C0_SDA #2, LES_CH6 #0, ETM_TCLK #2", 38 PC7 (io) "ACMP0_CH7, LEU1_RX #0, I2C0_SCL #2, LES_CH7 #0, ETM_TD0 #2", 40 DECOUPLE "Decouple output for on-chip voltage regulator. An external capacitance of size CDECOUPLE is required at this pin.", 41 PC8 (io) "ACMP1_CH0, TIM2_CC0 #2, US0_CS #2, LES_CH8 #0", 42 PC9 (io) "ACMP1_CH1, TIM2_CC1 #2, US0_CLK #2, LES_CH9 #0, GPIO_EM4WU2", 43 PC10 (io) "ACMP1_CH2, TIM2_CC2 #2, US0_RX #2, LES_CH10 #0", 44 PC11 (io) "ACMP1_CH3, US0_TX #2, LES_CH11 #0", 47 PF10 (io) "USB_DM #0", 48 PF11 (io) "USB_DP #0", 49 PF0 (io) "TIM0_CC0 #5, LETIM0_OUT0 #2, US1_CLK #2, LEU0_TX #3, I2C0_SDA #5, DBG_SWCLK #0/1/2/3", 50 PF1 (io) "TIM0_CC1 #5, LETIM0_OUT1 #2, US1_CS #2, LEU0_RX #3, I2C0_SCL #5, DBG_SWDIO #0/1/2/3, GPIO_EM4WU3", 51 PF2 (io) "TIM0_CC2 #5, LEU0_TX #4, ACMP1_O #0, DBG_SWO #0, GPIO_EM4WU4", 53 PF12 (io) "USB_ID #0", 54 PF5 (io) "TIM0_CDTI2 #2/5, USB_VBUSEN #0, PRS_CH2 #1", 57 PE8 (io) "PCNT2_S0IN #1, PRS_CH3 #1", 58 PE9 (io) "PCNT2_S1IN #1", 59 PE10 (io) "TIM1_CC0 #1, US0_TX #0, BOOTLOADER_TX", 60 PE11 (io) "TIM1_CC1 #1, US0_RX #0, LES_ALTEX5 #0, BOOTLOADER_RX", 61 PE12 (io) "TIM1_CC2 #1, US0_RX #3, US0_CLK #0, I2C0_SDA #6, CMU_CLK1 #2, LES_ALTEX6 #0", 62 PE13 (io) "US0_TX #3, US0_CS #0, I2C0_SCL #6, LES_ALTEX7 #0, ACMP0_O #0, GPIO_EM4WU5", 63 PE14 (io) "TIM3_CC0 #0, LEU0_TX #2", 64 PE15 (io) "TIM3_CC1 #0, LEU0_RX #2"
part B pins: 7 IOVDD_0 (power) "Digital IO power supply 0.", 8 VSS (power) "Ground", 22 VSS (power) "Ground", 23 AVDD_1 (power) "Analog power supply 1.", 26 IOVDD_3 (power) "Digital IO power supply 3.", 27 AVDD_0 (power) "Analog power supply 0.", 39 VDD_DREG (power) "Power supply for on-chip voltage regulator.", 45 USB_VREGI (power) "USB Input to internal 3.3 V regulator.", 46 USB_VREGO "USB Decoupling for internal 3.3 V USB regulator and regulator output.", 52 USB_VBUS (power) "USB 5.0 V VBUS input.", 55 IOVDD_5 (power) "Digital IO power supply 5.", 56 VSS (power) "Ground"

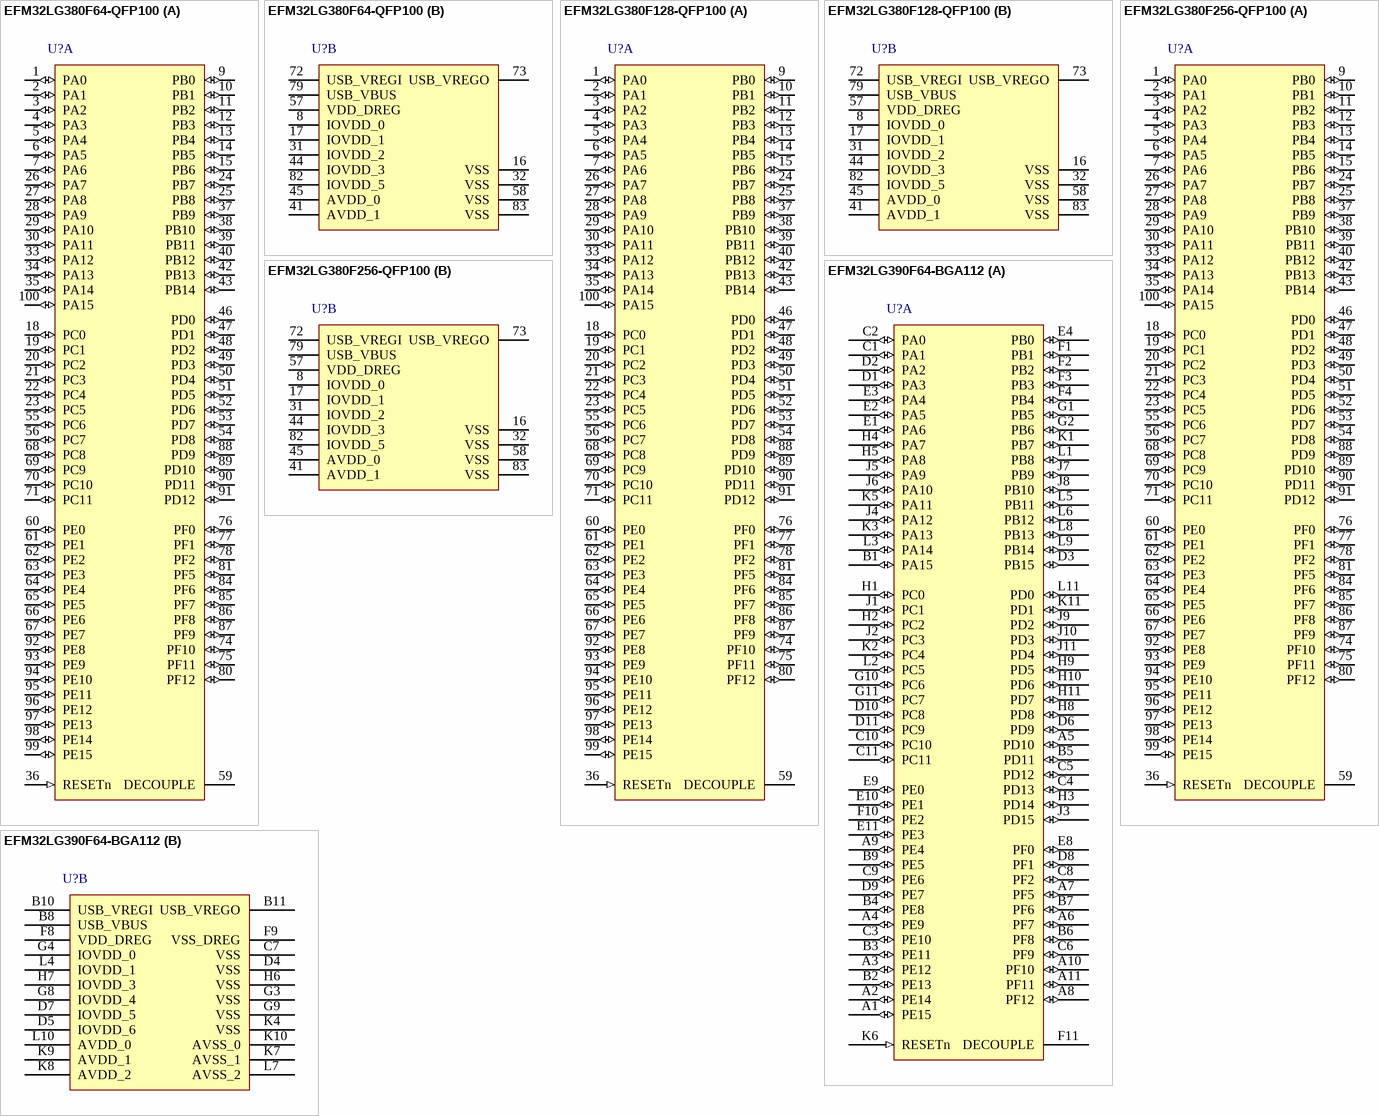
[diagram p16: symbols EFM32LG380F64-QFP100 to EFM32LG390F64-BGA112]

## EFM32LG380F64-QFP100
designator U?
EFM32 Leopard Gecko, M3 ARM Cortex CPU, 64 KB Flash, 32 KB RAM, 1.85 - 3.8 V Supply, 48 MHz Max Speed, -40 to 85 degC, 100-Pin LQFP, RoHS Compliant; Generic Part Number: EFM32LG380; PartNumber: EFM32LG380F64-QFP100; ADC: Y; Flash (KB): 64; GPIO: 83; I2C: 2; Max Speed (MHz): 48; OPAMPS: 3; RAM (KB): 32; DatasheetVersion: Rev 1.00; PackageVersion: Rev. 98A0100QP043_03MAY2007; PackageReference: LQFP100; PackageDescription: 100-Pin Low rofile Quad Flat Package, Body 14 x 14 mm, Pitch 0.5 mm; Supplier 1: Digi-Key; Supplier Part Number 1: EFM32LG380F64-ND; Supplier 2: Mouser; Supplier Part Number 2: 904-EFM32LG380F64; AES: Y; ARM Cortex CPU: M3; LESENSE: Y; Subcategory: EFM32 Leopard Gecko; Supply Voltage (V): 1.85 - 3.8; USART/SPI (I2S): 3; USB: Y; Mounting Technology: Surface Mount; ComponentLink1Description: Manufacturer URL; ComponentLink1URL: http://www.energymicro.com/; ComponentLink2Description: Datasheet; ComponentLink2URL: http://cdn.energymicro.com/dl/devices/pdf/d0112_efm32lg380_datasheet.pdf; ComponentLink3Description: Package Specification; ComponentLink3URL: http://cdn.energymicro.com/dl/devices/pdf/d0006_efm32g280_datasheet.pdf
footprint ENMR-LQFP100_N (LQFP, 100-Leads, Body 14x14mm, Pitch 0.5mm, IPC Medium Density)
footprint ENMR-LQFP100_L (LQFP, 100-Leads, Body 14x14mm, Pitch 0.5mm, IPC High Density)
footprint ENMR-LQFP100_M (LQFP, 100-Leads, Body 14x14mm, Pitch 0.5mm, IPC Low Density)
part A pins: 1 PA0 (io) "EBI_AD09#0/1/2, TIM0_CC0#0/1/4, LEU0_RX#4, I2C0_SDA#0, PRS_CH0#0, GPIO_EM4WU0", 2 PA1 (io) "EBI_AD10#0/1/2, TIM0_CC1#0/1, I2C0_SCL#0, CMU_CLK1#0, PRS_CH1#0", 3 PA2 (io) "EBI_AD11#0/1/2, TIM0_CC2#0/1, CMU_CLK0#0, ETM_TD0#3", 4 PA3 (io) "EBI_AD12#0/1/2, TIM0_CDTI0#0, U0_TX#2, LES_ALTEX2#0, ETM_TD1#3", 5 PA4 (io) "EBI_AD13#0/1/2, TIM0_CDTI1#0, U0_RX#2, LES_ALTEX3#0, ETM_TD2#3", 6 PA5 (io) "EBI_AD14#0/1/2, TIM0_CDTI2#0, LEU1_TX#1, LES_ALTEX4#0, ETM_TD3#3", 7 PA6 (io) "EBI_AD15#0/1/2, LEU1_RX#1, ETM_TCLK#3, GPIO_EM4WU1", 9 PB0 (io) "EBI_A16#0/1/2, TIM1_CC0#2", 10 PB1 (io) "EBI_A17#0/1/2, TIM1_CC1#2", 11 PB2 (io) "EBI_A18#0/1/2, TIM1_CC2#2", 12 PB3 (io) "EBI_A19#0/1/2, PCNT1_S0IN#1, US2_TX#1", 13 PB4 (io) "EBI_A20#0/1/2, PCNT1_S1IN#1, US2_RX#1", 14 PB5 (io) "EBI_A21#0/1/2, US2_CLK#1", 15 PB6 (io) "EBI_A22#0/1/2, US2_CS#1", 18 PC0 (io) "DAC0_OUT0ALT#0/OPAMP_OUT0ALT, ACMP0_CH0, EBI_A23#0/1/2, TIM0_CC1#4, PCNT0_S0IN#2, US0_TX#5, US1_TX#0, I2C0_SDA#4, LES_CH0#0, PRS_CH2#0", 19 PC1 (io) "DAC0_OUT0ALT#1/OPAMP_OUT0ALT, ACMP0_CH1, EBI_A24#0/1/2, TIM0_CC2#4, PCNT0_S1IN#2, US0_RX#5, US1_RX#0, I2C0_SCL#4, LES_CH1#0, PRS_CH3#0", 20 PC2 (io) "DAC0_OUT0ALT#2/OPAMP_OUT0ALT, ACMP0_CH2, EBI_A25#0/1/2, TIM0_CDTI0#4, US2_TX#0, LES_CH2#0", 21 PC3 (io) "DAC0_OUT0ALT#3/OPAMP_OUT0ALT, ACMP0_CH3, EBI_NANDREn#0/1/2, TIM0_CDTI1#4, US2_RX#0, LES_CH3#0", 22 PC4 (io) "DAC0_P0#0/OPAMP_P0, ACMP0_CH4, EBI_A26#0/1/2, TIM0_CDTI2#4, LETIM0_OUT0#3, PCNT1_S0IN#0, US2_CLK#0, I2C1_SDA#0, LES_CH4#0", 23 PC5 (io) "DAC0_N0#0/OPAMP_N0, ACMP0_CH5, EBI_NANDWEn#0/1/2, LETIM0_OUT1#3, PCNT1_S1IN#0, US2_CS#0, I2C1_SCL#0, LES_CH5#0", 24 PB7 (io) "LFXTAL_P, TIM1_CC0#3, US0_TX#4, US1_CLK#0", 25 PB8 (io) "LFXTAL_N, TIM1_CC1#3, US0_RX#4, US1_CS#0", 26 PA7 (io) "EBI_CSTFT#0/1/2", 27 PA8 (io) "EBI_DCLK#0/1/2, TIM2_CC0#0", 28 PA9 (io) "EBI_DTEN#0/1/2, TIM2_CC1#0", 29 PA10 (io) "EBI_VSNC#0/1/2, TIM2_CC2#0", 30 PA11 (io) "EBI_HSNC#0/1/2", 33 PA12 (io) "EBI_A00#0/1/2, TIM2_CC0#1", 34 PA13 (io) "EBI_A01#0/1/2, TIM2_CC1#1", 35 PA14 (io) "EBI_A02#0/1/2, TIM2_CC2#1", 36 RESETn (in) "Reset input.Active low, with internal pull-up.", 37 PB9 (io) "EBI_A03#0/1/2, U1_TX#2", 38 PB10 (io) "EBI_A04#0/1/2, U1_RX#2", 39 PB11 (io) "DAC0_OUT0#0/OPAMP_OUT0, TIM1_CC2#3, LETIM0_OUT0#1, I2C1_SDA#1", 40 PB12 (io) "DAC0_OUT1#0/OPAMP_OUT1, LETIM0_OUT1#1, I2C1_SCL#1", 42 PB13 (io) "HFXTAL_P, US0_CLK#4/5, LEU0_TX#1", 43 PB14 (io) "HFXTAL_N, US0_CS#4/5, LEU0_RX#1", 46 PD0 (io) "ADC0_CH0, DAC0_OUT0ALT#4/OPAMP_OUT0ALT, DAC0_OUT2#1/OPAMP_OUT2, PCNT2_S0IN#0, US1_TX#1", 47 PD1 (io) "ADC0_CH1, DAC0_OUT1ALT#4/OPAMP_OUT1ALT, TIM0_CC0#3, PCNT2_S1IN#0, US1_RX#1, DBG_SWO#2", 48 PD2 (io) "ADC0_CH2, EBI_A27#0/1/2, TIM0_CC1#3, US1_CLK#1, USB_DMPU#0, DBG_SWO#3", 49 PD3 (io) "ADC0_CH3, DAC0_N2#0/OPAMP_N2, TIM0_CC2#3, US1_CS#1, ETM_TD1#0/2", 50 PD4 (io) "ADC0_CH4, DAC0_P2#0/OPAMP_P2, LEU0_TX#0, ETM_TD2#0/2", 51 PD5 (io) "ADC0_CH5, DAC0_OUT2#0/OPAMP_OUT2, LEU0_RX#0, ETM_TD3#0/2", 52 PD6 (io) "ADC0_CH6, DAC0_P1#0/OPAMP_P1, TIM1_CC0#4, LETIM0_OUT0#0, PCNT0_S0IN#3, US1_RX#2, I2C0_SDA#1, LES_ALTEX0#0, ACMP0_O#2, ETM_TD0#0", 53 PD7 (io) "ADC0_CH7, DAC0_N1#0/OPAMP_N1, TIM1_CC1#4, LETIM0_OUT1#0, PCNT0_S1IN#3, US1_TX#2, I2C0_SCL#1, CMU_CLK0#2, LES_ALTEX1#0, ACMP1_O#2, ETM_TCLK#0", 54 PD8 (io) "BU_VIN, CMU_CLK1#1", 55 PC6 (io) "ACMP0_CH6, EBI_A05#0/1/2, LEU1_TX#0, I2C0_SDA#2, LES_CH6#0, ETM_TCLK#2", 56 PC7 (io) "ACMP0_CH7, EBI_A06#0/1/2, LEU1_RX#0, I2C0_SCL#2, LES_CH7#0, ETM_TD0#2", 59 DECOUPLE "Decouple output for on-chip voltage regulator. An external capacitance of size CDECOUPLE is required at this pin", 60 PE0 (io) "EBI_A07#0/1/2, TIM3_CC0#1, PCNT0_S0IN#1, U0_TX#1, I2C1_SDA#2", 61 PE1 (io) "EBI_A08#0/1/2, TIM3_CC1#1, PCNT0_S1IN#1, U0_RX#1, I2C1_SCL#2", 62 PE2 (io) "BU_VOUT, EBI_A09#0, TIM3_CC2#1, U1_TX#3, ACMP0_O#1", 63 PE3 (io) "BU_STAT, EBI_A10#0, U1_RX#3, ACMP1_O#1", 64 PE4 (io) "EBI_A11#0/1/2, US0_CS#1", 65 PE5 (io) "EBI_A12#0/1/2, US0_CLK#1", 66 PE6 (io) "EBI_A13#0/1/2, US0_RX#1", 67 PE7 (io) "EBI_A14#0/1/2, US0_TX#1", 68 PC8 (io) "ACMP1_CH0, EBI_A15#0/1/2, TIM2_CC0#2, US0_CS#2, LES_CH8#0", 69 PC9 (io) "ACMP1_CH1, EBI_A09#1/2, TIM2_CC1#2, US0_CLK#2, LES_CH9#0, GPIO_EM4WU2", 70 PC10 (io) "ACMP1_CH2, EBI_A10#1/2, TIM2_CC2#2, US0_RX#2, LES_CH10#0", 71 PC11 (io) "ACMP1_CH3, EBI_ALE#1/2, US0_TX#2, LES_CH11#0", 74 PF10 (io) "U1_TX#1, USB_DM#0", 75 PF11 (io) "U1_RX#1, USB_DP#0", 76 PF0 (io) "TIM0_CC0#5, LETIM0_OUT0#2, US1_CLK#2, LEU0_TX#3, I2C0_SDA#5, DBG_SWCLK#0/1/2/3", 77 PF1 (io) "TIM0_CC1#5, LETIM0_OUT1#2, US1_CS#2, LEU0_RX#3, I2C0_SCL#5, DBG_SWDIO#0/1/2/3, GPIO_EM4WU3", 78 PF2 (io) "EBI_ARDY#0/1/2, TIM0_CC2#5, LEU0_TX#4, ACMP1_O#0, DBG_SWO#0, GPIO_EM4WU4", 80 PF12 (io) "USB_ID#0", 81 PF5 (io) "EBI_REn#0/2, TIM0_CDTI2#2/5, USB_VBUSEN#0, PRS_CH2#1", 84 PF6 (io) "EBI_BL0#0/1/2, TIM0_CC0#2，U0_TX#0", 85 PF7 (io) "EBI_BL1#0/1/2, TIM0_CC1#2，U0_RX#0", 86 PF8 (io) "EBI_WEn#1, TIM0_CC2#2，ETM_TCLK#1", 87 PF9 (io) "EBI_REn#1, ETM_TD0#1", 88 PD9 (io) "EBI_CS0#0/1/2", 89 PD10 (io) "EBI_CS1#0/1/2", 90 PD11 (io) "EBI_CS2#0/1/2", 91 PD12 (io) "EBI_CS3#0/1/2", 92 PE8 (io) "EBI_AD00#0/1/2, PCNT2_S0IN#1, PRS_CH3#1", 93 PE9 (io) "EBI_AD01#0/1/2, PCNT2_S1IN#1", 94 PE10 (io) "EBI_AD02#0/1/2, TIM1_CC0#1, US0_TX#0, BOOTLOADER_TX", 95 PE11 (io) "EBI_AD03#0/1/2, TIM1_CC1#1, US0_RX#0, LES_ALTEX5#0, BOOTLOADER_RX", 96 PE12 (io) "EBI_AD04#0/1/2, TIM1_CC2#1, US0_RX#3, US0_CLK#0, I2C0_SDA#6, CMU_CLK1#2, LES_ALTEX6#0", 97 PE13 (io) "EBI_AD05#0/1/2, US0_TX#3， US0_CS#0， I2C0_SCL#6， LES_ALTEX7#0, ACMP0_O#0, GPIO_EM4WU5", 98 PE14 (io) "EBI_AD06#0/1/2, TIM3_CC0#0, LEU0_TX#2", 99 PE15 (io) "EBI_AD07#0/1/2, TIM3_CC1#0, LEU0_RX#2", 100 PA15 (io) "EBI_AD08#0/1/2, TIM3_CC2#0"
part B pins: 8 IOVDD_0 (power) "Digital IO power supply 0.", 16 VSS (power) "Ground", 17 IOVDD_1 (power) "Digital IO power supply 1.", 31 IOVDD_2 (power) "Digital IO power supply 2.", 32 VSS (power) "Ground", 41 AVDD_1 (power) "Analog power supply 1.", 44 IOVDD_3 (power) "Digital IO power supply 3.", 45 AVDD_0 (power) "Analog power supply 0.", 57 VDD_DREG (power) "Power supply for on-chip voltage regulator.", 58 VSS (power) "Ground", 72 USB_VREGI (power) "USB Input to internal 3.3 V regulator", 73 USB_VREGO "USB Decoupling for internal 3.3 V USB regulator and regulator output.", 79 USB_VBUS (power) "USB 5.0 V VBUS input.", 82 IOVDD_5 (power) "Digital IO power supply 5.", 83 VSS (power) "Ground"

## EFM32LG380F128-QFP100
designator U?
EFM32 Leopard Gecko, M3 ARM Cortex CPU, 128 KB Flash, 32 KB RAM, 1.85 - 3.8 V Supply, 48 MHz Max Speed, -40 to 85 degC, 100-Pin LQFP, RoHS Compliant; Generic Part Number: EFM32LG380; PartNumber: EFM32LG380F128-QFP100; ADC: Y; Flash (KB): 128; GPIO: 83; I2C: 2; Max Speed (MHz): 48; OPAMPS: 3; RAM (KB): 32; DatasheetVersion: Rev 1.00; PackageVersion: Rev. 98A0100QP043_03MAY2007; PackageReference: LQFP100; PackageDescription: 100-Pin Low rofile Quad Flat Package, Body 14 x 14 mm, Pitch 0.5 mm; Supplier 1: Digi-Key; Supplier Part Number 1: EFM32LG380F128-ND; Supplier 2: Mouser; Supplier Part Number 2: 904-EFM32LG380F128; AES: Y; ARM Cortex CPU: M3; LESENSE: Y; Subcategory: EFM32 Leopard Gecko; Supply Voltage (V): 1.85 - 3.8; USART/SPI (I2S): 3; USB: Y; Mounting Technology: Surface Mount; ComponentLink1Description: Manufacturer URL; ComponentLink1URL: http://www.energymicro.com/; ComponentLink2Description: Datasheet; ComponentLink2URL: http://cdn.energymicro.com/dl/devices/pdf/d0112_efm32lg380_datasheet.pdf; ComponentLink3Description: Package Specification; ComponentLink3URL: http://cdn.energymicro.com/dl/devices/pdf/d0006_efm32g280_datasheet.pdf
footprint ENMR-LQFP100_N (LQFP, 100-Leads, Body 14x14mm, Pitch 0.5mm, IPC Medium Density)
footprint ENMR-LQFP100_L (LQFP, 100-Leads, Body 14x14mm, Pitch 0.5mm, IPC High Density)
footprint ENMR-LQFP100_M (LQFP, 100-Leads, Body 14x14mm, Pitch 0.5mm, IPC Low Density)
part A pins: 1 PA0 (io) "EBI_AD09#0/1/2, TIM0_CC0#0/1/4, LEU0_RX#4, I2C0_SDA#0, PRS_CH0#0, GPIO_EM4WU0", 2 PA1 (io) "EBI_AD10#0/1/2, TIM0_CC1#0/1, I2C0_SCL#0, CMU_CLK1#0, PRS_CH1#0", 3 PA2 (io) "EBI_AD11#0/1/2, TIM0_CC2#0/1, CMU_CLK0#0, ETM_TD0#3", 4 PA3 (io) "EBI_AD12#0/1/2, TIM0_CDTI0#0, U0_TX#2, LES_ALTEX2#0, ETM_TD1#3", 5 PA4 (io) "EBI_AD13#0/1/2, TIM0_CDTI1#0, U0_RX#2, LES_ALTEX3#0, ETM_TD2#3", 6 PA5 (io) "EBI_AD14#0/1/2, TIM0_CDTI2#0, LEU1_TX#1, LES_ALTEX4#0, ETM_TD3#3", 7 PA6 (io) "EBI_AD15#0/1/2, LEU1_RX#1, ETM_TCLK#3, GPIO_EM4WU1", 9 PB0 (io) "EBI_A16#0/1/2, TIM1_CC0#2", 10 PB1 (io) "EBI_A17#0/1/2, TIM1_CC1#2", 11 PB2 (io) "EBI_A18#0/1/2, TIM1_CC2#2", 12 PB3 (io) "EBI_A19#0/1/2, PCNT1_S0IN#1, US2_TX#1", 13 PB4 (io) "EBI_A20#0/1/2, PCNT1_S1IN#1, US2_RX#1", 14 PB5 (io) "EBI_A21#0/1/2, US2_CLK#1", 15 PB6 (io) "EBI_A22#0/1/2, US2_CS#1", 18 PC0 (io) "DAC0_OUT0ALT#0/OPAMP_OUT0ALT, ACMP0_CH0, EBI_A23#0/1/2, TIM0_CC1#4, PCNT0_S0IN#2, US0_TX#5, US1_TX#0, I2C0_SDA#4, LES_CH0#0, PRS_CH2#0", 19 PC1 (io) "DAC0_OUT0ALT#1/OPAMP_OUT0ALT, ACMP0_CH1, EBI_A24#0/1/2, TIM0_CC2#4, PCNT0_S1IN#2, US0_RX#5, US1_RX#0, I2C0_SCL#4, LES_CH1#0, PRS_CH3#0", 20 PC2 (io) "DAC0_OUT0ALT#2/OPAMP_OUT0ALT, ACMP0_CH2, EBI_A25#0/1/2, TIM0_CDTI0#4, US2_TX#0, LES_CH2#0", 21 PC3 (io) "DAC0_OUT0ALT#3/OPAMP_OUT0ALT, ACMP0_CH3, EBI_NANDREn#0/1/2, TIM0_CDTI1#4, US2_RX#0, LES_CH3#0", 22 PC4 (io) "DAC0_P0#0/OPAMP_P0, ACMP0_CH4, EBI_A26#0/1/2, TIM0_CDTI2#4, LETIM0_OUT0#3, PCNT1_S0IN#0, US2_CLK#0, I2C1_SDA#0, LES_CH4#0", 23 PC5 (io) "DAC0_N0#0/OPAMP_N0, ACMP0_CH5, EBI_NANDWEn#0/1/2, LETIM0_OUT1#3, PCNT1_S1IN#0, US2_CS#0, I2C1_SCL#0, LES_CH5#0", 24 PB7 (io) "LFXTAL_P, TIM1_CC0#3, US0_TX#4, US1_CLK#0", 25 PB8 (io) "LFXTAL_N, TIM1_CC1#3, US0_RX#4, US1_CS#0", 26 PA7 (io) "EBI_CSTFT#0/1/2", 27 PA8 (io) "EBI_DCLK#0/1/2, TIM2_CC0#0", 28 PA9 (io) "EBI_DTEN#0/1/2, TIM2_CC1#0", 29 PA10 (io) "EBI_VSNC#0/1/2, TIM2_CC2#0", 30 PA11 (io) "EBI_HSNC#0/1/2", 33 PA12 (io) "EBI_A00#0/1/2, TIM2_CC0#1", 34 PA13 (io) "EBI_A01#0/1/2, TIM2_CC1#1", 35 PA14 (io) "EBI_A02#0/1/2, TIM2_CC2#1", 36 RESETn (in) "Reset input.Active low, with internal pull-up.", 37 PB9 (io) "EBI_A03#0/1/2, U1_TX#2", 38 PB10 (io) "EBI_A04#0/1/2, U1_RX#2", 39 PB11 (io) "DAC0_OUT0#0/OPAMP_OUT0, TIM1_CC2#3, LETIM0_OUT0#1, I2C1_SDA#1", 40 PB12 (io) "DAC0_OUT1#0/OPAMP_OUT1, LETIM0_OUT1#1, I2C1_SCL#1", 42 PB13 (io) "HFXTAL_P, US0_CLK#4/5, LEU0_TX#1", 43 PB14 (io) "HFXTAL_N, US0_CS#4/5, LEU0_RX#1", 46 PD0 (io) "ADC0_CH0, DAC0_OUT0ALT#4/OPAMP_OUT0ALT, DAC0_OUT2#1/OPAMP_OUT2, PCNT2_S0IN#0, US1_TX#1", 47 PD1 (io) "ADC0_CH1, DAC0_OUT1ALT#4/OPAMP_OUT1ALT, TIM0_CC0#3, PCNT2_S1IN#0, US1_RX#1, DBG_SWO#2", 48 PD2 (io) "ADC0_CH2, EBI_A27#0/1/2, TIM0_CC1#3, US1_CLK#1, USB_DMPU#0, DBG_SWO#3", 49 PD3 (io) "ADC0_CH3, DAC0_N2#0/OPAMP_N2, TIM0_CC2#3, US1_CS#1, ETM_TD1#0/2", 50 PD4 (io) "ADC0_CH4, DAC0_P2#0/OPAMP_P2, LEU0_TX#0, ETM_TD2#0/2", 51 PD5 (io) "ADC0_CH5, DAC0_OUT2#0/OPAMP_OUT2, LEU0_RX#0, ETM_TD3#0/2", 52 PD6 (io) "ADC0_CH6, DAC0_P1#0/OPAMP_P1, TIM1_CC0#4, LETIM0_OUT0#0, PCNT0_S0IN#3, US1_RX#2, I2C0_SDA#1, LES_ALTEX0#0, ACMP0_O#2, ETM_TD0#0", 53 PD7 (io) "ADC0_CH7, DAC0_N1#0/OPAMP_N1, TIM1_CC1#4, LETIM0_OUT1#0, PCNT0_S1IN#3, US1_TX#2, I2C0_SCL#1, CMU_CLK0#2, LES_ALTEX1#0, ACMP1_O#2, ETM_TCLK#0", 54 PD8 (io) "BU_VIN, CMU_CLK1#1", 55 PC6 (io) "ACMP0_CH6, EBI_A05#0/1/2, LEU1_TX#0, I2C0_SDA#2, LES_CH6#0, ETM_TCLK#2", 56 PC7 (io) "ACMP0_CH7, EBI_A06#0/1/2, LEU1_RX#0, I2C0_SCL#2, LES_CH7#0, ETM_TD0#2", 59 DECOUPLE "Decouple output for on-chip voltage regulator. An external capacitance of size CDECOUPLE is required at this pin", 60 PE0 (io) "EBI_A07#0/1/2, TIM3_CC0#1, PCNT0_S0IN#1, U0_TX#1, I2C1_SDA#2", 61 PE1 (io) "EBI_A08#0/1/2, TIM3_CC1#1, PCNT0_S1IN#1, U0_RX#1, I2C1_SCL#2", 62 PE2 (io) "BU_VOUT, EBI_A09#0, TIM3_CC2#1, U1_TX#3, ACMP0_O#1", 63 PE3 (io) "BU_STAT, EBI_A10#0, U1_RX#3, ACMP1_O#1", 64 PE4 (io) "EBI_A11#0/1/2, US0_CS#1", 65 PE5 (io) "EBI_A12#0/1/2, US0_CLK#1", 66 PE6 (io) "EBI_A13#0/1/2, US0_RX#1", 67 PE7 (io) "EBI_A14#0/1/2, US0_TX#1", 68 PC8 (io) "ACMP1_CH0, EBI_A15#0/1/2, TIM2_CC0#2, US0_CS#2, LES_CH8#0", 69 PC9 (io) "ACMP1_CH1, EBI_A09#1/2, TIM2_CC1#2, US0_CLK#2, LES_CH9#0, GPIO_EM4WU2", 70 PC10 (io) "ACMP1_CH2, EBI_A10#1/2, TIM2_CC2#2, US0_RX#2, LES_CH10#0", 71 PC11 (io) "ACMP1_CH3, EBI_ALE#1/2, US0_TX#2, LES_CH11#0", 74 PF10 (io) "U1_TX#1, USB_DM#0", 75 PF11 (io) "U1_RX#1, USB_DP#0", 76 PF0 (io) "TIM0_CC0#5, LETIM0_OUT0#2, US1_CLK#2, LEU0_TX#3, I2C0_SDA#5, DBG_SWCLK#0/1/2/3", 77 PF1 (io) "TIM0_CC1#5, LETIM0_OUT1#2, US1_CS#2, LEU0_RX#3, I2C0_SCL#5, DBG_SWDIO#0/1/2/3, GPIO_EM4WU3", 78 PF2 (io) "EBI_ARDY#0/1/2, TIM0_CC2#5, LEU0_TX#4, ACMP1_O#0, DBG_SWO#0, GPIO_EM4WU4", 80 PF12 (io) "USB_ID#0", 81 PF5 (io) "EBI_REn#0/2, TIM0_CDTI2#2/5, USB_VBUSEN#0, PRS_CH2#1", 84 PF6 (io) "EBI_BL0#0/1/2, TIM0_CC0#2，U0_TX#0", 85 PF7 (io) "EBI_BL1#0/1/2, TIM0_CC1#2，U0_RX#0", 86 PF8 (io) "EBI_WEn#1, TIM0_CC2#2，ETM_TCLK#1", 87 PF9 (io) "EBI_REn#1, ETM_TD0#1", 88 PD9 (io) "EBI_CS0#0/1/2", 89 PD10 (io) "EBI_CS1#0/1/2", 90 PD11 (io) "EBI_CS2#0/1/2", 91 PD12 (io) "EBI_CS3#0/1/2", 92 PE8 (io) "EBI_AD00#0/1/2, PCNT2_S0IN#1, PRS_CH3#1", 93 PE9 (io) "EBI_AD01#0/1/2, PCNT2_S1IN#1", 94 PE10 (io) "EBI_AD02#0/1/2, TIM1_CC0#1, US0_TX#0, BOOTLOADER_TX", 95 PE11 (io) "EBI_AD03#0/1/2, TIM1_CC1#1, US0_RX#0, LES_ALTEX5#0, BOOTLOADER_RX", 96 PE12 (io) "EBI_AD04#0/1/2, TIM1_CC2#1, US0_RX#3, US0_CLK#0, I2C0_SDA#6, CMU_CLK1#2, LES_ALTEX6#0", 97 PE13 (io) "EBI_AD05#0/1/2, US0_TX#3， US0_CS#0， I2C0_SCL#6， LES_ALTEX7#0, ACMP0_O#0, GPIO_EM4WU5", 98 PE14 (io) "EBI_AD06#0/1/2, TIM3_CC0#0, LEU0_TX#2", 99 PE15 (io) "EBI_AD07#0/1/2, TIM3_CC1#0, LEU0_RX#2", 100 PA15 (io) "EBI_AD08#0/1/2, TIM3_CC2#0"
part B pins: 8 IOVDD_0 (power) "Digital IO power supply 0.", 16 VSS (power) "Ground", 17 IOVDD_1 (power) "Digital IO power supply 1.", 31 IOVDD_2 (power) "Digital IO power supply 2.", 32 VSS (power) "Ground", 41 AVDD_1 (power) "Analog power supply 1.", 44 IOVDD_3 (power) "Digital IO power supply 3.", 45 AVDD_0 (power) "Analog power supply 0.", 57 VDD_DREG (power) "Power supply for on-chip voltage regulator.", 58 VSS (power) "Ground", 72 USB_VREGI (power) "USB Input to internal 3.3 V regulator", 73 USB_VREGO "USB Decoupling for internal 3.3 V USB regulator and regulator output.", 79 USB_VBUS (power) "USB 5.0 V VBUS input.", 82 IOVDD_5 (power) "Digital IO power supply 5.", 83 VSS (power) "Ground"

## EFM32LG380F256-QFP100
designator U?
EFM32 Leopard Gecko, M3 ARM Cortex CPU, 256 KB Flash, 32 KB RAM, 1.85 - 3.8 V Supply, 48 MHz Max Speed, -40 to 85 degC, 100-Pin LQFP, RoHS Compliant; Generic Part Number: EFM32LG380; PartNumber: EFM32LG380F256-QFP100; ADC: Y; Flash (KB): 256; GPIO: 83; I2C: 2; Max Speed (MHz): 48; OPAMPS: 3; RAM (KB): 32; DatasheetVersion: Rev 1.00; PackageVersion: Rev. 98A0100QP043_03MAY2007; PackageReference: LQFP100; PackageDescription: 100-Pin Low rofile Quad Flat Package, Body 14 x 14 mm, Pitch 0.5 mm; Supplier 1: Digi-Key; Supplier Part Number 1: 914-1056-2-ND; Supplier 2: Digi-Key; Supplier Part Number 2: 914-1056-1-ND; Supplier 3: Digi-Key; Supplier Part Number 3: 914-1056-6-ND; Supplier 4: Mouser; Supplier Part Number 4: 904-EFM32LG380F256; AES: Y; ARM Cortex CPU: M3; LESENSE: Y; Subcategory: EFM32 Leopard Gecko; Supply Voltage (V): 1.85 - 3.8; USART/SPI (I2S): 3; USB: Y; Mounting Technology: Surface Mount; ComponentLink1Description: Manufacturer URL; ComponentLink1URL: http://www.energymicro.com/; ComponentLink2Description: Datasheet; ComponentLink2URL: http://cdn.energymicro.com/dl/devices/pdf/d0112_efm32lg380_datasheet.pdf; ComponentLink3Description: Package Specification; ComponentLink3URL: http://cdn.energymicro.com/dl/devices/pdf/d0006_efm32g280_datasheet.pdf
footprint ENMR-LQFP100_N (LQFP, 100-Leads, Body 14x14mm, Pitch 0.5mm, IPC Medium Density)
footprint ENMR-LQFP100_L (LQFP, 100-Leads, Body 14x14mm, Pitch 0.5mm, IPC High Density)
footprint ENMR-LQFP100_M (LQFP, 100-Leads, Body 14x14mm, Pitch 0.5mm, IPC Low Density)
part A pins: 1 PA0 (io) "EBI_AD09#0/1/2, TIM0_CC0#0/1/4, LEU0_RX#4, I2C0_SDA#0, PRS_CH0#0, GPIO_EM4WU0", 2 PA1 (io) "EBI_AD10#0/1/2, TIM0_CC1#0/1, I2C0_SCL#0, CMU_CLK1#0, PRS_CH1#0", 3 PA2 (io) "EBI_AD11#0/1/2, TIM0_CC2#0/1, CMU_CLK0#0, ETM_TD0#3", 4 PA3 (io) "EBI_AD12#0/1/2, TIM0_CDTI0#0, U0_TX#2, LES_ALTEX2#0, ETM_TD1#3", 5 PA4 (io) "EBI_AD13#0/1/2, TIM0_CDTI1#0, U0_RX#2, LES_ALTEX3#0, ETM_TD2#3", 6 PA5 (io) "EBI_AD14#0/1/2, TIM0_CDTI2#0, LEU1_TX#1, LES_ALTEX4#0, ETM_TD3#3", 7 PA6 (io) "EBI_AD15#0/1/2, LEU1_RX#1, ETM_TCLK#3, GPIO_EM4WU1", 9 PB0 (io) "EBI_A16#0/1/2, TIM1_CC0#2", 10 PB1 (io) "EBI_A17#0/1/2, TIM1_CC1#2", 11 PB2 (io) "EBI_A18#0/1/2, TIM1_CC2#2", 12 PB3 (io) "EBI_A19#0/1/2, PCNT1_S0IN#1, US2_TX#1", 13 PB4 (io) "EBI_A20#0/1/2, PCNT1_S1IN#1, US2_RX#1", 14 PB5 (io) "EBI_A21#0/1/2, US2_CLK#1", 15 PB6 (io) "EBI_A22#0/1/2, US2_CS#1", 18 PC0 (io) "DAC0_OUT0ALT#0/OPAMP_OUT0ALT, ACMP0_CH0, EBI_A23#0/1/2, TIM0_CC1#4, PCNT0_S0IN#2, US0_TX#5, US1_TX#0, I2C0_SDA#4, LES_CH0#0, PRS_CH2#0", 19 PC1 (io) "DAC0_OUT0ALT#1/OPAMP_OUT0ALT, ACMP0_CH1, EBI_A24#0/1/2, TIM0_CC2#4, PCNT0_S1IN#2, US0_RX#5, US1_RX#0, I2C0_SCL#4, LES_CH1#0, PRS_CH3#0", 20 PC2 (io) "DAC0_OUT0ALT#2/OPAMP_OUT0ALT, ACMP0_CH2, EBI_A25#0/1/2, TIM0_CDTI0#4, US2_TX#0, LES_CH2#0", 21 PC3 (io) "DAC0_OUT0ALT#3/OPAMP_OUT0ALT, ACMP0_CH3, EBI_NANDREn#0/1/2, TIM0_CDTI1#4, US2_RX#0, LES_CH3#0", 22 PC4 (io) "DAC0_P0#0/OPAMP_P0, ACMP0_CH4, EBI_A26#0/1/2, TIM0_CDTI2#4, LETIM0_OUT0#3, PCNT1_S0IN#0, US2_CLK#0, I2C1_SDA#0, LES_CH4#0", 23 PC5 (io) "DAC0_N0#0/OPAMP_N0, ACMP0_CH5, EBI_NANDWEn#0/1/2, LETIM0_OUT1#3, PCNT1_S1IN#0, US2_CS#0, I2C1_SCL#0, LES_CH5#0", 24 PB7 (io) "LFXTAL_P, TIM1_CC0#3, US0_TX#4, US1_CLK#0", 25 PB8 (io) "LFXTAL_N, TIM1_CC1#3, US0_RX#4, US1_CS#0", 26 PA7 (io) "EBI_CSTFT#0/1/2", 27 PA8 (io) "EBI_DCLK#0/1/2, TIM2_CC0#0", 28 PA9 (io) "EBI_DTEN#0/1/2, TIM2_CC1#0", 29 PA10 (io) "EBI_VSNC#0/1/2, TIM2_CC2#0", 30 PA11 (io) "EBI_HSNC#0/1/2", 33 PA12 (io) "EBI_A00#0/1/2, TIM2_CC0#1", 34 PA13 (io) "EBI_A01#0/1/2, TIM2_CC1#1", 35 PA14 (io) "EBI_A02#0/1/2, TIM2_CC2#1", 36 RESETn (in) "Reset input.Active low, with internal pull-up.", 37 PB9 (io) "EBI_A03#0/1/2, U1_TX#2", 38 PB10 (io) "EBI_A04#0/1/2, U1_RX#2", 39 PB11 (io) "DAC0_OUT0#0/OPAMP_OUT0, TIM1_CC2#3, LETIM0_OUT0#1, I2C1_SDA#1", 40 PB12 (io) "DAC0_OUT1#0/OPAMP_OUT1, LETIM0_OUT1#1, I2C1_SCL#1", 42 PB13 (io) "HFXTAL_P, US0_CLK#4/5, LEU0_TX#1", 43 PB14 (io) "HFXTAL_N, US0_CS#4/5, LEU0_RX#1", 46 PD0 (io) "ADC0_CH0, DAC0_OUT0ALT#4/OPAMP_OUT0ALT, DAC0_OUT2#1/OPAMP_OUT2, PCNT2_S0IN#0, US1_TX#1", 47 PD1 (io) "ADC0_CH1, DAC0_OUT1ALT#4/OPAMP_OUT1ALT, TIM0_CC0#3, PCNT2_S1IN#0, US1_RX#1, DBG_SWO#2", 48 PD2 (io) "ADC0_CH2, EBI_A27#0/1/2, TIM0_CC1#3, US1_CLK#1, USB_DMPU#0, DBG_SWO#3", 49 PD3 (io) "ADC0_CH3, DAC0_N2#0/OPAMP_N2, TIM0_CC2#3, US1_CS#1, ETM_TD1#0/2", 50 PD4 (io) "ADC0_CH4, DAC0_P2#0/OPAMP_P2, LEU0_TX#0, ETM_TD2#0/2", 51 PD5 (io) "ADC0_CH5, DAC0_OUT2#0/OPAMP_OUT2, LEU0_RX#0, ETM_TD3#0/2", 52 PD6 (io) "ADC0_CH6, DAC0_P1#0/OPAMP_P1, TIM1_CC0#4, LETIM0_OUT0#0, PCNT0_S0IN#3, US1_RX#2, I2C0_SDA#1, LES_ALTEX0#0, ACMP0_O#2, ETM_TD0#0", 53 PD7 (io) "ADC0_CH7, DAC0_N1#0/OPAMP_N1, TIM1_CC1#4, LETIM0_OUT1#0, PCNT0_S1IN#3, US1_TX#2, I2C0_SCL#1, CMU_CLK0#2, LES_ALTEX1#0, ACMP1_O#2, ETM_TCLK#0", 54 PD8 (io) "BU_VIN, CMU_CLK1#1", 55 PC6 (io) "ACMP0_CH6, EBI_A05#0/1/2, LEU1_TX#0, I2C0_SDA#2, LES_CH6#0, ETM_TCLK#2", 56 PC7 (io) "ACMP0_CH7, EBI_A06#0/1/2, LEU1_RX#0, I2C0_SCL#2, LES_CH7#0, ETM_TD0#2", 59 DECOUPLE "Decouple output for on-chip voltage regulator. An external capacitance of size CDECOUPLE is required at this pin", 60 PE0 (io) "EBI_A07#0/1/2, TIM3_CC0#1, PCNT0_S0IN#1, U0_TX#1, I2C1_SDA#2", 61 PE1 (io) "EBI_A08#0/1/2, TIM3_CC1#1, PCNT0_S1IN#1, U0_RX#1, I2C1_SCL#2", 62 PE2 (io) "BU_VOUT, EBI_A09#0, TIM3_CC2#1, U1_TX#3, ACMP0_O#1", 63 PE3 (io) "BU_STAT, EBI_A10#0, U1_RX#3, ACMP1_O#1", 64 PE4 (io) "EBI_A11#0/1/2, US0_CS#1", 65 PE5 (io) "EBI_A12#0/1/2, US0_CLK#1", 66 PE6 (io) "EBI_A13#0/1/2, US0_RX#1", 67 PE7 (io) "EBI_A14#0/1/2, US0_TX#1", 68 PC8 (io) "ACMP1_CH0, EBI_A15#0/1/2, TIM2_CC0#2, US0_CS#2, LES_CH8#0", 69 PC9 (io) "ACMP1_CH1, EBI_A09#1/2, TIM2_CC1#2, US0_CLK#2, LES_CH9#0, GPIO_EM4WU2", 70 PC10 (io) "ACMP1_CH2, EBI_A10#1/2, TIM2_CC2#2, US0_RX#2, LES_CH10#0", 71 PC11 (io) "ACMP1_CH3, EBI_ALE#1/2, US0_TX#2, LES_CH11#0", 74 PF10 (io) "U1_TX#1, USB_DM#0", 75 PF11 (io) "U1_RX#1, USB_DP#0", 76 PF0 (io) "TIM0_CC0#5, LETIM0_OUT0#2, US1_CLK#2, LEU0_TX#3, I2C0_SDA#5, DBG_SWCLK#0/1/2/3", 77 PF1 (io) "TIM0_CC1#5, LETIM0_OUT1#2, US1_CS#2, LEU0_RX#3, I2C0_SCL#5, DBG_SWDIO#0/1/2/3, GPIO_EM4WU3", 78 PF2 (io) "EBI_ARDY#0/1/2, TIM0_CC2#5, LEU0_TX#4, ACMP1_O#0, DBG_SWO#0, GPIO_EM4WU4", 80 PF12 (io) "USB_ID#0", 81 PF5 (io) "EBI_REn#0/2, TIM0_CDTI2#2/5, USB_VBUSEN#0, PRS_CH2#1", 84 PF6 (io) "EBI_BL0#0/1/2, TIM0_CC0#2，U0_TX#0", 85 PF7 (io) "EBI_BL1#0/1/2, TIM0_CC1#2，U0_RX#0", 86 PF8 (io) "EBI_WEn#1, TIM0_CC2#2，ETM_TCLK#1", 87 PF9 (io) "EBI_REn#1, ETM_TD0#1", 88 PD9 (io) "EBI_CS0#0/1/2", 89 PD10 (io) "EBI_CS1#0/1/2", 90 PD11 (io) "EBI_CS2#0/1/2", 91 PD12 (io) "EBI_CS3#0/1/2", 92 PE8 (io) "EBI_AD00#0/1/2, PCNT2_S0IN#1, PRS_CH3#1", 93 PE9 (io) "EBI_AD01#0/1/2, PCNT2_S1IN#1", 94 PE10 (io) "EBI_AD02#0/1/2, TIM1_CC0#1, US0_TX#0, BOOTLOADER_TX", 95 PE11 (io) "EBI_AD03#0/1/2, TIM1_CC1#1, US0_RX#0, LES_ALTEX5#0, BOOTLOADER_RX", 96 PE12 (io) "EBI_AD04#0/1/2, TIM1_CC2#1, US0_RX#3, US0_CLK#0, I2C0_SDA#6, CMU_CLK1#2, LES_ALTEX6#0", 97 PE13 (io) "EBI_AD05#0/1/2, US0_TX#3， US0_CS#0， I2C0_SCL#6， LES_ALTEX7#0, ACMP0_O#0, GPIO_EM4WU5", 98 PE14 (io) "EBI_AD06#0/1/2, TIM3_CC0#0, LEU0_TX#2", 99 PE15 (io) "EBI_AD07#0/1/2, TIM3_CC1#0, LEU0_RX#2", 100 PA15 (io) "EBI_AD08#0/1/2, TIM3_CC2#0"
part B pins: 8 IOVDD_0 (power) "Digital IO power supply 0.", 16 VSS (power) "Ground", 17 IOVDD_1 (power) "Digital IO power supply 1.", 31 IOVDD_2 (power) "Digital IO power supply 2.", 32 VSS (power) "Ground", 41 AVDD_1 (power) "Analog power supply 1.", 44 IOVDD_3 (power) "Digital IO power supply 3.", 45 AVDD_0 (power) "Analog power supply 0.", 57 VDD_DREG (power) "Power supply for on-chip voltage regulator.", 58 VSS (power) "Ground", 72 USB_VREGI (power) "USB Input to internal 3.3 V regulator", 73 USB_VREGO "USB Decoupling for internal 3.3 V USB regulator and regulator output.", 79 USB_VBUS (power) "USB 5.0 V VBUS input.", 82 IOVDD_5 (power) "Digital IO power supply 5.", 83 VSS (power) "Ground"